# EAGLE library part 66101011722 (library WR-WTB)
WR-WTB 2.54 mm Male Right Angled Shrouded Header KIND PROPERTIES: Pitch:2.54 mm Gender:Male MATERIAL PROPERTIES: Insulator Material :PA46 Insulator Flammability Rating:UL94 V-0 Color:Black Contact Material:Phosphor Bronze Contact Plating:Tin GENERAL INFORMATION Operating Temperature:-40 up to +105 °C Compliance: RoHS Working Voltage:50 V (AC) Withstanding Voltage:500 V (AC) Contact Resistance:20 mΩ PACKAGING PROPERTIES Packaging:Box <https://katalog.we-online.com/media/images/v2/o58906v209%20Family_WR-WTB_Vertical_Shrouded_Header_6610xx11722_2.54_SW.jpg> Details see: https://katalog.we-online.com/en/em/WTB_2_54_MALE_RIGHT_ANGLED_SHROUDED_HEADER_GLOW_WIRE_PLASTIC_6610XXX1722 Updated by Yingchun,Shan 2019-11-05 2019 (C) Würth Elektronik
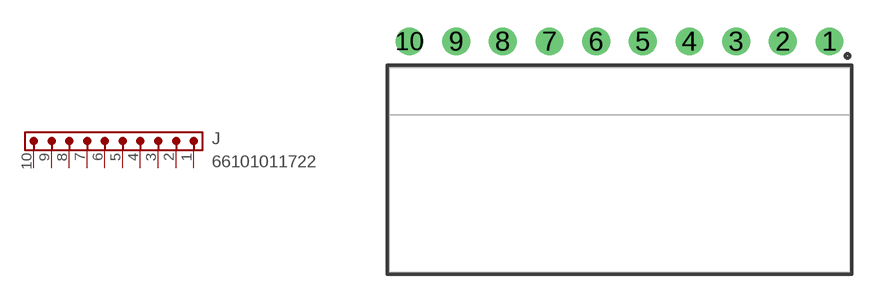
[diagram p50: symbol with the pads of 66101011722; footprint 66101011722]

Designator prefix J

## 66101011722 (CONTACT-RESISTANCE: 20mOhm; DATASHEET-URL: https://www.we-online.com/redexpert/spec/66101011722?ae; GENDER: Male; IR: 3A; L: 25.1mm; MOUNT: THT; PACKAGING: Box; PART-NUMBER: 66101011722; PCB-CABLE-PANEL: PCB; PINS: 10; PITCH: 2.54mm; TYPE: Right Angled; VALUE: 66101011722; WORKING-VOLTAGE: 50V(AC))  [66101011722]
1  1  pas
2  2  pas
3  3  pas
4  4  pas
5  5  pas
6  6  pas
7  7  pas
8  8  pas
9  9  pas
10  10  pas

## Footprint 66101011722 (pad centres in mm)
WR-WTB 2.54 mm Male Right Angled Shrouded Header,10Pins
drill 1: 1 11.43,2.7; 2 8.89,2.7; 3 6.35,2.7; 4 3.81,2.7; 5 1.27,2.7; 6 -1.27,2.7; 7 -3.81,2.7; 8 -6.35,2.7; 9 -8.89,2.7; 10 -11.43,2.7